# Altium schematic symbol library PTH08T230W.SchLib: 1 symbol
Pins are listed as number, name and electrical type; pins without a type are passive.

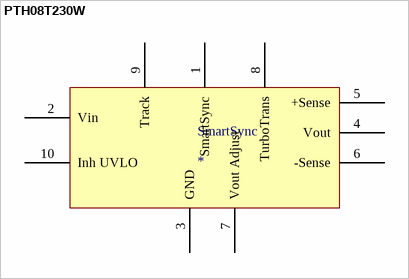
[diagram p0: symbol PTH08T230W]

## PTH08T230W
designator SmartSync
footprint PTH08T230W
pins: 1 SmartSync, 2 Vin, 3 GND, 4 Vout, 5 +Sense, 6 -Sense, 7 Vout Adjust, 8 TurboTrans, 9 Track, 10 Inh UVLO